# Altium schematic symbol library TexasInstruments_1.SchLib: 2 symbols
Pins are listed as number, name and electrical type; pins without a type are passive.

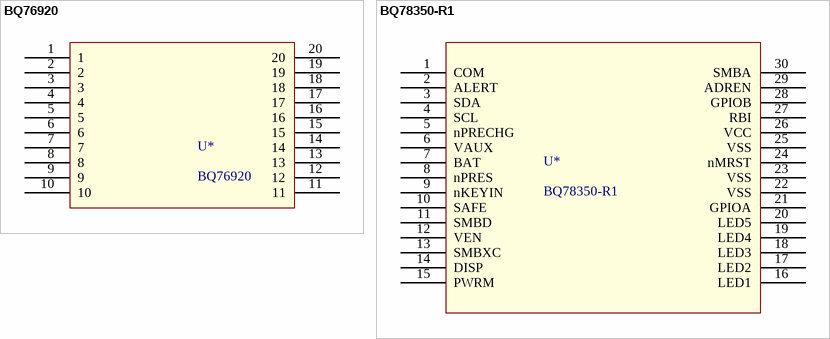
[diagram p0: symbols BQ76920 to BQ78350-R1]

## BQ76920
designator U*
pins: 1, 2, 3, 4, 5, 6, 7, 8, 9, 10, 11, 12, 13, 14, 15, 16, 17, 18, 19, 20

## BQ78350-R1
designator U*
pins: 1 COM, 2 ALERT, 3 SDA, 4 SCL, 5 nPRECHG, 6 VAUX, 7 BAT, 8 nPRES, 9 nKEYIN, 10 SAFE, 11 SMBD, 12 VEN, 13 SMBXC, 14 DISP, 15 PWRM, 16 LED1, 17 LED2, 18 LED3, 19 LED4, 20 LED5, 21 GPIOA, 22 VSS, 23 VSS, 24 nMRST, 25 VSS, 26 VCC, 27 RBI, 28 GPIOB, 29 ADREN, 30 SMBA